# Altium schematic symbol library TL4051AIDBZT.SchLib: 1 symbol
Pins are listed as number, name and electrical type; pins without a type are passive.

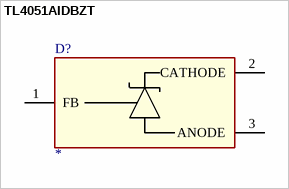
[diagram p0: symbol TL4051AIDBZT]

## TL4051AIDBZT
designator D?
PRECISION MICROPOWER SHUNT VOLTAGE REFERENCE; Mfr_Name: Texas Instruments; RefDes: RefDes; Type: Type
footprint DBZ3
pins: 1 FB, 2 CATHODE, 3 ANODE